# Altium footprint library Recom R78E-1.0.PcbLib: 1 footprints
Each footprint in its own frame and in the unit in brackets; x right, y up, seen from the top. Pads: shape width x height; smd on the part's side, far side on the other; paste and mask are expansions set on the pad; w line width, h text height; cw(c..) or ccw(c..) is an arc to the next point about the centre after c.
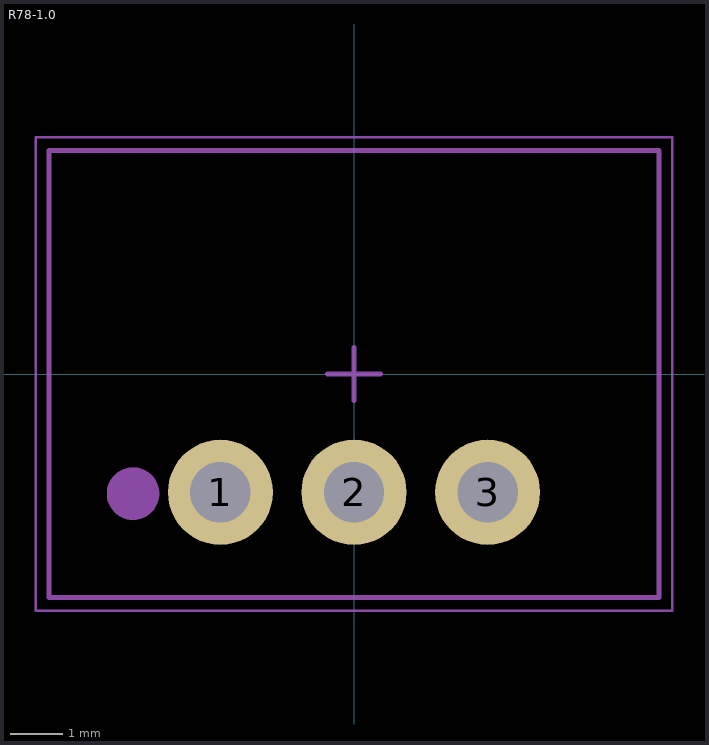
[diagram p0: the footprint, top view; thin cyan lines are the x and y axes]

## R78-1.0 [mm]
pads (3):
  round 2 hole 1.15: 1(-2.54,-2.25) 2(0,-2.25) 3(2.54,-2.25)
Mechanical 6:
  text "'.Designator'" at -1.475,-0.275 h0.6
Mechanical 8:
  circle w0.5: c-4.2,-2.275 r0.25
  lines w0.05: -6.05,-4.5 6.05,-4.5 6.05,4.5 -6.05,4.5 -6.05,-4.5
Mechanical 13:
  lines w0.1: -5.8,-4.25 5.8,-4.25 5.8,4.25 -5.8,4.25 -5.8,-4.25
Mechanical 15:
  lines w0.05: -6.05,-4.5 -6.05,4.5 6.05,4.5 6.05,-4.5 -6.05,-4.5
  lines w0.1: -0.5,0 0.5,0 ; 0,-0.5 0,0.5
3D body: height 10.4, standoff 0, extent -5.8,-4.25 5.8,4.25